# EAGLE library part SN7404N (library ICs)
Hex inverter,SN7404N DIP14 Source: Datasheet <http://www.ti.com/lit/ds/symlink/sn74s04.pdf>
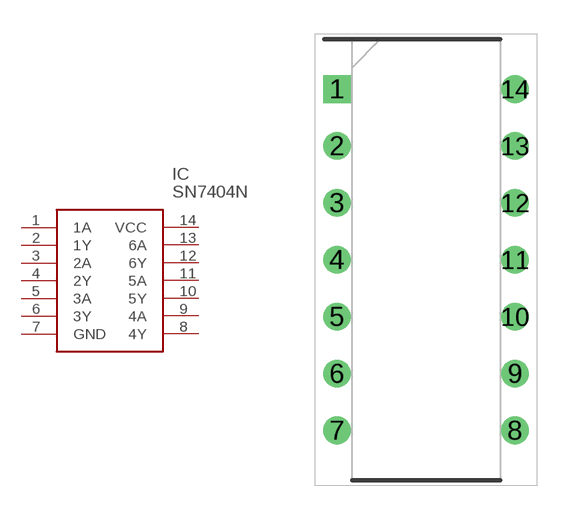
[diagram p6: symbol with the pads of DIP794W53P254L1930H508Q14N; footprint DIP794W53P254L1930H508Q14N]

Designator prefix IC

## SN7404N (DESCRIPTION: Hex inverter,SN7404N DIP14; HEIGHT: 5.08mm; MANUFACTURER_NAME: Texas Instruments; MANUFACTURER_PART_NUMBER: SN7404N; MOUSER_PART_NUMBER: 595-SN7404N; MOUSER_PRICE-STOCK: https://www.mouser.com/Search/Refine.aspx?Keyword=595-SN7404N; RS_PART_NUMBER: 0305529P; RS_PRICE-STOCK: http://uk.rs-online.com/web/p/products/0305529P)  [DIP794W53P254L1930H508Q14N]
1  1A  in
2  1Y  out
3  2A  in
4  2Y  out
5  3A  in
6  3Y  out
7  GND  pwr
8  4Y  out
9  4A  in
10  5Y  out
11  5A  in
12  6Y  out
13  6A  in
14  VCC  pwr

## Footprint DIP794W53P254L1930H508Q14N (pad centres in mm)
SN74LS04N
drill 0.73 pad 1.13 square: 1 -3.97,7.62
drill 0.73 pad 1.13: 2 -3.97,5.08; 3 -3.97,2.54; 4 -3.97,0; 5 -3.97,-2.54; 6 -3.97,-5.08; 7 -3.97,-7.62; 8 3.97,-7.62; 9 3.97,-5.08; 10 3.97,-2.54; 11 3.97,0; 12 3.97,2.54; 13 3.97,5.08; 14 3.97,7.62